# EAGLE library part 1734354-* (library volks73-TEConnectivity)
9-Pin D-Sub miniature (DB9) Connector Documentation Drawing <http://www.te.com/commerce/DocumentDelivery/DDEController?Action=srchrtrv&DocNm=1734354&DocType=Customer+Drawing&DocLang=English>
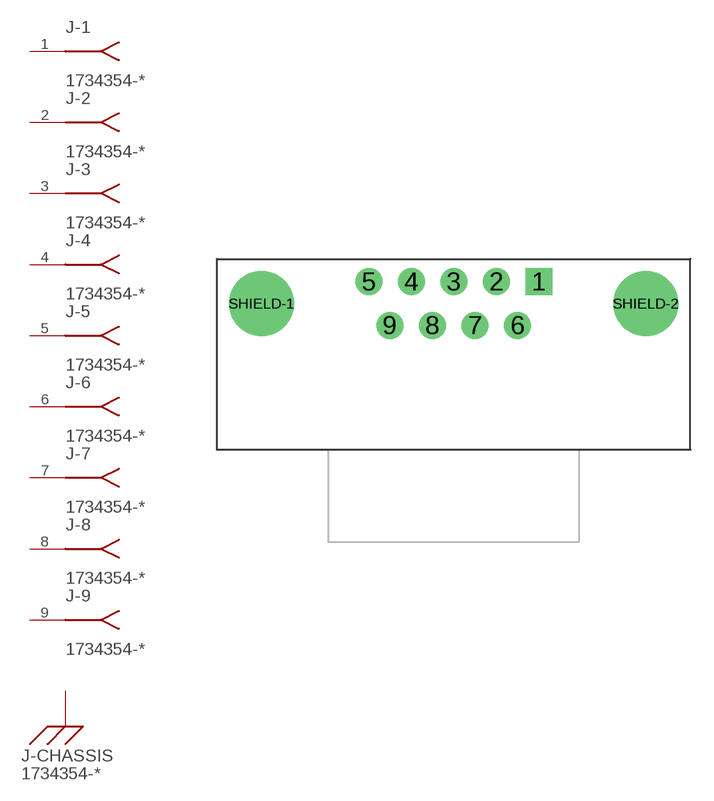
[diagram p1: symbol with the pads of DB9_FEMALE_RIGHT-ANGLE; footprint DB9_FEMALE_RIGHT-ANGLE]

Designator prefix J; gates -1=FEMALE_CONNECTOR -2=FEMALE_CONNECTOR -3=FEMALE_CONNECTOR -4=FEMALE_CONNECTOR -5=FEMALE_CONNECTOR -6=FEMALE_CONNECTOR -7=FEMALE_CONNECTOR -8=FEMALE_CONNECTOR -9=FEMALE_CONNECTOR -CHASSIS=CHASSIS

## 1734354-1 (COLOR: Black; CONNECTOR_STYLE: D-Sub; CONNECTOR_TYPE: Receptacle, Female Sockets; CONTACT_FINISH: Gold; CONTACT_FINISH_THICKNESS: Flash; CONTACT_TYPE: Signal; CURRENT_RATING: 2A; DESCRIPTION: CONN D-SUB RCPT 9POS R/A SOLDER; DOCUMENTATION_LINK: <a href="http://www.te.com/commerce/DocumentDelivery/DDEController?Action=srchrtrv&DocNm=1734354&DocType=Customer+Drawing&DocLang=English">Datasheet</a>; DOCUMENTATION_URL: http://www.te.com/commerce/DocumentDelivery/DDEController?Action=srchrtrv&DocNm=1734354&DocType=Customer+Drawing&DocLang=English; FLANGE_FEATURE: Mating Side; Female Screwlock (4-40); HOUSING_MATERIAL: Polyamide (PA9T), Nylon 9T, Glass Filled; MANUFACTURER: TE Connectivity; MOUNTING_TYPE: Through Hole, Right Angle; NUMBER_POSITIONS: 9; NUMBER_ROWS: 2; OPERATING_TEMPERATURE: -55 ~ 105C; PART_NUMBER: 1734354-1; SERIES: AMPLIMITE HD-20, AMP; SHELL_MATERIAL: Steel, Nickel Plated; SHELL_SIZE: 1 (DE, E); SUPPLIER_ITEM_LINK: <a href="http://www.digikey.com/product-search/en?KeyWords=A35107-ND&WT.z_header=search_go">Details</a>; SUPPLIER_ITEM_NUMBER: A35107-ND; SUPPLIER_ITEM_URL: http://www.digikey.com/product-search/en?KeyWords=A35107-ND&WT.z_header=search_go; SUPPLIER_LINK: <a href="http://www.digikey.com">Home Page</a>; SUPPLIER_NAME: Digi-Key; SUPPLIER_URL: http://www.digikey.com; TERMINATION: Solder; VOLTAGE_RATING: 250V), 1734354-2 (COLOR: Black; CONNECTOR_STYLE: D-Sub; CONNECTOR_TYPE: Receptacle, Female Sockets; CONTACT_FINISH: Gold; CONTACT_FINISH_THICKNESS: 15µin (0.38µm); CONTACT_TYPE: Signal; CURRENT_RATING: 2A; DESCRIPTION: CONN D-SUB RCPT 9POS R/A SOLDER; DOCUMENTATION_LINK: <a href="http://www.te.com/commerce/DocumentDelivery/DDEController?Action=srchrtrv&DocNm=1734354&DocType=Customer+Drawing&DocLang=English">Datasheet</a>; DOCUMENTATION_URL: http://www.te.com/commerce/DocumentDelivery/DDEController?Action=srchrtrv&DocNm=1734354&DocType=Customer+Drawing&DocLang=English; FLANGE_FEATURE: Mating Side; Female Screwlock (4-40); HOUSING_MATERIAL: Polyamide (PA9T), Nylon 9T, Glass Filled; MANUFACTURER: TE Connectivity; MOUNTING_TYPE: Through Hole, Right Angle; NUMBER_POSITIONS: 9; NUMBER_ROWS: 2; OPERATING_TEMPERATURE: -55 ~ 105C; PART_NUMBER: 1734354-2; SERIES: AMPLIMITE HD-20, AMP; SHELL_MATERIAL: Steel, Nickel Plated; SHELL_SIZE: 1 (DE, E); SUPPLIER_ITEM_LINK: <a href="http://www.digikey.com/product-detail/en/1734354-2/A35108-ND/1279821">Details</a>; SUPPLIER_ITEM_NUMBER: A35108-ND; SUPPLIER_ITEM_URL: http://www.digikey.com/product-detail/en/1734354-2/A35108-ND/1279821; SUPPLIER_LINK: <a href="http://www.digikey.com">Home Page</a>; SUPPLIER_NAME: Digi-Key; SUPPLIER_URL: http://www.digikey.com; TERMINATION: Solder; VOLTAGE_RATING: 250V)  [DB9_FEMALE_RIGHT-ANGLE]
1  -1:P$1
2  -2:P$1
3  -3:P$1
4  -4:P$1
5  -5:P$1
6  -6:P$1
7  -7:P$1
8  -8:P$1
9  -9:P$1
SHIELD-1  -CHASSIS:CHASSIS
SHIELD-2  -CHASSIS:CHASSIS

## Footprint DB9_FEMALE_RIGHT-ANGLE (pad centres in mm)
9-Pin D-sub Miniature (DB9) Board Mount Connector
drill 1.17 square: 1 5.54,1.42
drill 1.17: 2 2.77,1.42; 3 0,1.42; 4 -2.745,1.42; 5 -5.515,1.42; 6 4.155,-1.42; 7 1.385,-1.42; 8 -1.385,-1.42; 9 -4.155,-1.42
drill 3.2: SHIELD-1 -12.495,0; SHIELD-2 12.495,0